# EAGLE library part IR2109S (library ir)
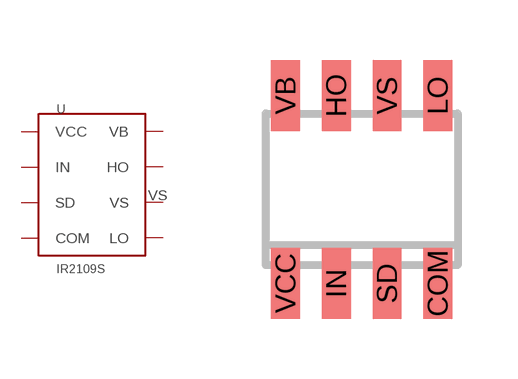
[diagram p6: symbol with the pads of SO08; footprint SO08]

Designator prefix -

## IR2109S  [SO08]
COM  COM
HO  HO
IN  IN
LO  LO
SD  SD
VB  VB
VCC  VCC
VS  VS

## Footprint SO08 (pad centres in mm)
8 Lead SOIC Data Sheet No. PD60212 Rev A Source: www.irf.com .. ir2520.pdf
smd 0.72 x 1.78: COM 1.905,-2.35; HO -0.635,2.35; IN -0.635,-2.35; LO 1.905,2.35; SD 0.635,-2.35; VB -1.905,2.35; VCC -1.905,-2.35; VS 0.635,2.35